# EAGLE library part DS1307 (library DS1307)
DS1307 - 64×8, Serial, I2C Real Time Clock
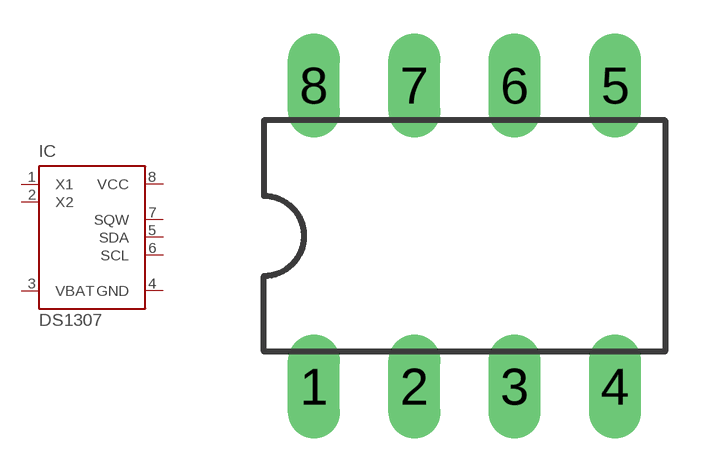
[diagram p0: symbol with the pads of DIP-8; footprint DIP-8]

Designator prefix IC

## DS1307  [DIP-8]
1  X1  in
2  X2  in
3  VBAT  in
4  GND  pwr
5  SDA  out
6  SCL  in
7  SQW  in
8  VCC  pwr

## Footprint DIP-8 (pad centres in mm)
drill 0.813 long: 1 -3.81,-3.81; 2 -1.27,-3.81; 3 1.27,-3.81; 4 3.81,-3.81; 5 3.81,3.81; 6 1.27,3.81; 7 -1.27,3.81; 8 -3.81,3.81